# Altium schematic symbol library 691 701 550 0xx B.SchLib: 11 symbols
Pins are listed as number, name and electrical type; pins without a type are passive.

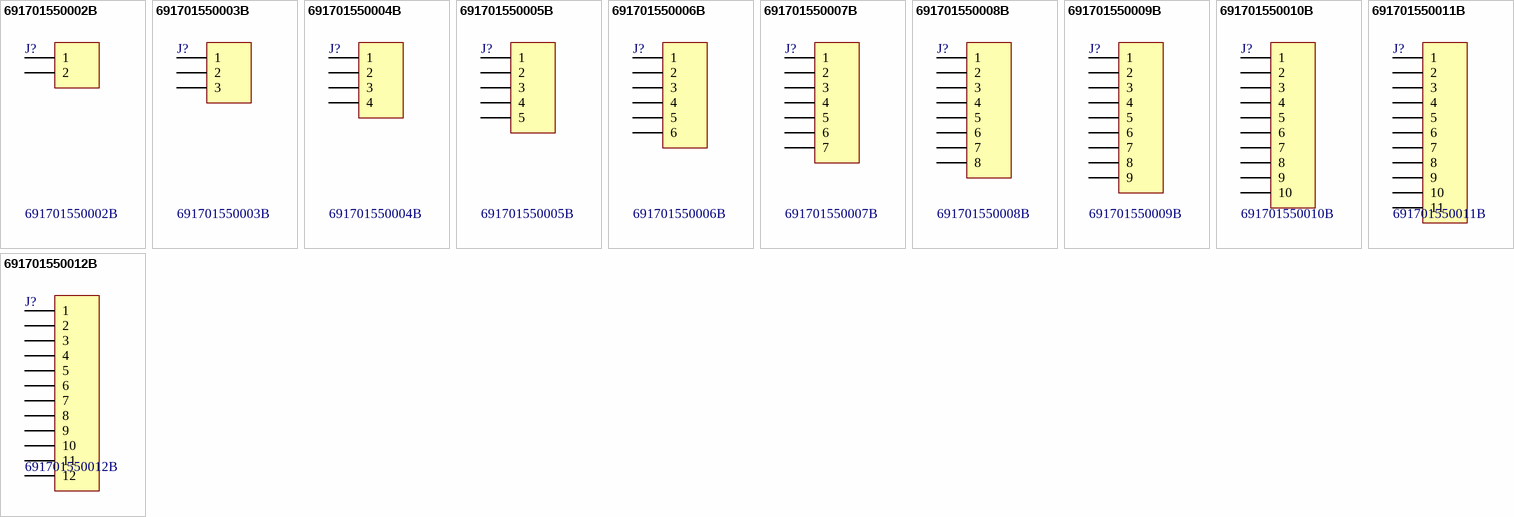
[diagram p0: symbols 691701550002B to 691701550012B]

## 691701550002B
designator J?
WR-TBL Terminal Blocks Serie 7015 B - 5.08 mm THR Type with Flanges; Manufacturer: Würth Elektronik eiSos GmbH; ComponentLink1 Description: Manufacturer; ComponentLink2 Description: Datasheet; NoPins: 02; Created Date: 09 April 2014; partNo: 691701550002B; ComponentLink1URL: http://www.we-online.com; ComponentLink2URL: http://katalog.we-online.de/em/datasheet/6917015500xxB.pdf; Created by: Karrer Zheng; Value: 691701550002B
footprint 691701550002B (THR - 5,08mm - PCB Horizontal Flange - 02p)
pins: 1, 2

## 691701550003B
designator J?
WR-TBL Terminal Blocks Serie 7015 B - 5.08 mm THR Type with Flanges; Manufacturer: Würth Elektronik eiSos GmbH; ComponentLink1 Description: Manufacturer; ComponentLink2 Description: Datasheet; NoPins: 03; Created Date: 09 April 2014; partNo: 691701550003B; ComponentLink1URL: http://www.we-online.com; ComponentLink2URL: http://katalog.we-online.de/em/datasheet/6917015500xxB.pdf; Created by: Karrer Zheng; Value: 691701550003B
footprint 691701550003B (THR - 5,08mm - PCB Horizontal Flange - 03p)
pins: 1, 2, 3

## 691701550004B
designator J?
WR-TBL Terminal Blocks Serie 7015 B - 5.08 mm THR Type with Flanges; Manufacturer: Würth Elektronik eiSos GmbH; ComponentLink1 Description: Manufacturer; ComponentLink2 Description: Datasheet; NoPins: 04; Created Date: 09 April 2014; partNo: 691701550004B; ComponentLink1URL: http://www.we-online.com; ComponentLink2URL: http://katalog.we-online.de/em/datasheet/6917015500xxB.pdf; Created by: Karrer Zheng; Value: 691701550004B
footprint 691701550004B (THR - 5,08mm - PCB Horizontal Flange - 04p)
pins: 1, 2, 3, 4

## 691701550005B
designator J?
WR-TBL Terminal Blocks Serie 7015 B - 5.08 mm THR Type with Flanges; Manufacturer: Würth Elektronik eiSos GmbH; ComponentLink1 Description: Manufacturer; ComponentLink2 Description: Datasheet; NoPins: 05; Created Date: 09 April 2014; partNo: 691701550005B; ComponentLink1URL: http://www.we-online.com; ComponentLink2URL: http://katalog.we-online.de/em/datasheet/6917015500xxB.pdf; Created by: Karrer Zheng; Value: 691701550005B
footprint 691701550005B (THR - 5,08mm - PCB Horizontal Flange - 05p)
pins: 1, 2, 3, 4, 5

## 691701550006B
designator J?
WR-TBL Terminal Blocks Serie 7015 B - 5.08 mm THR Type with Flanges; Manufacturer: Würth Elektronik eiSos GmbH; ComponentLink1 Description: Manufacturer; ComponentLink2 Description: Datasheet; NoPins: 06; Created Date: 09 April 2014; partNo: 691701550006B; ComponentLink1URL: http://www.we-online.com; ComponentLink2URL: http://katalog.we-online.de/em/datasheet/6917015500xxB.pdf; Created by: Karrer Zheng; Value: 691701550006B
footprint 691701550006B (THR - 5,08mm - PCB Horizontal Flange - 06p)
pins: 1, 2, 3, 4, 5, 6

## 691701550007B
designator J?
WR-TBL Terminal Blocks Serie 7015 B - 5.08 mm THR Type with Flanges; Manufacturer: Würth Elektronik eiSos GmbH; ComponentLink1 Description: Manufacturer; ComponentLink2 Description: Datasheet; NoPins: 07; Created Date: 09 April 2014; partNo: 691701550007B; ComponentLink1URL: http://www.we-online.com; ComponentLink2URL: http://katalog.we-online.de/em/datasheet/6917015500xxB.pdf; Created by: Karrer Zheng; Value: 691701550007B
footprint 691701550007B (THR - 5,08mm - PCB Horizontal Flange - 07p)
pins: 1, 2, 3, 4, 5, 6, 7

## 691701550008B
designator J?
WR-TBL Terminal Blocks Serie 7015 B - 5.08 mm THR Type with Flanges; Manufacturer: Würth Elektronik eiSos GmbH; ComponentLink1 Description: Manufacturer; ComponentLink2 Description: Datasheet; NoPins: 08; Created Date: 09 April 2014; partNo: 691701550008B; ComponentLink1URL: http://www.we-online.com; ComponentLink2URL: http://katalog.we-online.de/em/datasheet/6917015500xxB.pdf; Created by: Karrer Zheng; Value: 691701550008B
footprint 691701550008B (THR - 5,08mm - PCB Horizontal Flange - 08p)
pins: 1, 2, 3, 4, 5, 6, 7, 8

## 691701550009B
designator J?
WR-TBL Terminal Blocks Serie 7015 B - 5.08 mm THR Type with Flanges; Manufacturer: Würth Elektronik eiSos GmbH; ComponentLink1 Description: Manufacturer; ComponentLink2 Description: Datasheet; NoPins: 09; Created Date: 09 April 2014; partNo: 691701550009B; ComponentLink1URL: http://www.we-online.com; ComponentLink2URL: http://katalog.we-online.de/em/datasheet/6917015500xxB.pdf; Created by: Karrer Zheng; Value: 691701550009B
footprint 691701550009B (THR - 5,08mm - PCB Horizontal Flange - 09p)
pins: 1, 2, 3, 4, 5, 6, 7, 8, 9

## 691701550010B
designator J?
WR-TBL Terminal Blocks Serie 7015 B - 5.08 mm THR Type with Flanges; Manufacturer: Würth Elektronik eiSos GmbH; ComponentLink1 Description: Manufacturer; ComponentLink2 Description: Datasheet; NoPins: 10; Created Date: 09 April 2014; partNo: 691701550010B; ComponentLink1URL: http://www.we-online.com; ComponentLink2URL: http://katalog.we-online.de/em/datasheet/6917015500xxB.pdf; Created by: Karrer Zheng; Value: 691701550010B
footprint 691701550010B (THR - 5,08mm - PCB Horizontal Flange - 10p)
pins: 1, 2, 3, 4, 5, 6, 7, 8, 9, 10

## 691701550011B
designator J?
WR-TBL Terminal Blocks Serie 7015 B - 5.08 mm THR Type with Flanges; Manufacturer: Würth Elektronik eiSos GmbH; ComponentLink1 Description: Manufacturer; ComponentLink2 Description: Datasheet; NoPins: 11; Created Date: 09 April 2014; partNo: 691701550011B; ComponentLink1URL: http://www.we-online.com; ComponentLink2URL: http://katalog.we-online.de/em/datasheet/6917015500xxB.pdf; Created by: Karrer Zheng; Value: 691701550011B
footprint 691701550011B (THR - 5,08mm - PCB Horizontal Flange - 11p)
pins: 1, 2, 3, 4, 5, 6, 7, 8, 9, 10, 11

## 691701550012B
designator J?
WR-TBL Terminal Blocks Serie 7015 B - 5.08 mm THR Type with Flanges; Manufacturer: Würth Elektronik eiSos GmbH; ComponentLink1 Description: Manufacturer; ComponentLink2 Description: Datasheet; NoPins: 12; Created Date: 09 April 2014; partNo: 691701550012B; ComponentLink1URL: http://www.we-online.com; ComponentLink2URL: http://katalog.we-online.de/em/datasheet/6917015500xxB.pdf; Created by: Karrer Zheng; Value: 691701550012B
footprint 691701550012B (THR - 5,08mm - PCB Horizontal Flange - 12p)
pins: 1, 2, 3, 4, 5, 6, 7, 8, 9, 10, 11, 12